# Altium schematic symbol library unirel.SchLib: 4 symbols
Pins are listed as number, name and electrical type; pins without a type are passive.

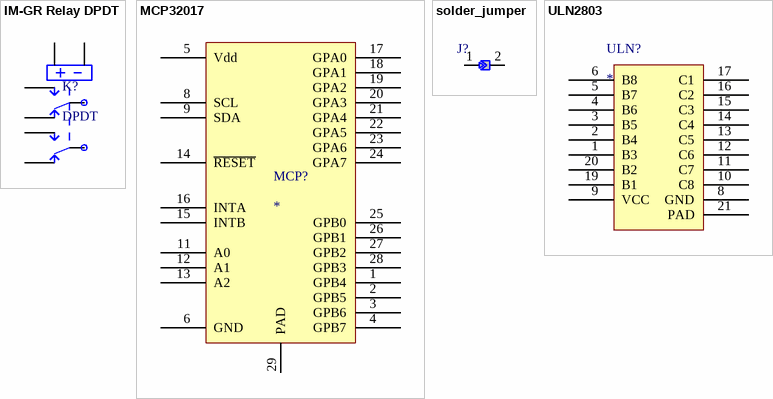
[diagram p0: symbols IM-GR Relay DPDT to ULN2803]

## IM-GR Relay DPDT
designator K?, comment DPDT
TE CONNECTIVITY  IM-GR  RELAY, DPDT, NO; Farnell ID: 1175070; URL: http://si.farnell.com/te-connectivity-axicom/im06gr/relay-gull-wing-dpco-12vdc-2a/dp/1175070
footprint AXICOM IM-G Relay (TE CONNECTIVITY AXICOM IM-G (Gull wings) Relay SMD)
pins: 1, 2, 3, 4, 5, 6, 7, 8

## MCP32017
designator MCP?
footprint MCP23017 QFN (QFN, 28-Leads, Body 6,00x6,00mm, Pitch 0,65mm, Thermal Pad 3,93x3,93mm, IPC High Density)
pins: 1 GPB4, 2 GPB5, 3 GPB6, 4 GPB7, 5 Vdd, 6 GND, 8 SCL, 9 SDA, 11 A0, 12 A1, 13 A2, 14 ~{RESET}, 15 INTB, 16 INTA, 17 GPA0, 18 GPA1, 19 GPA2, 20 GPA3, 21 GPA4, 22 GPA5, 23 GPA6, 24 GPA7, 25 GPB0, 26 GPB1, 27 GPB2, 28 GPB3, 29 PAD

## solder_jumper
designator J?  (value not drawn)
footprint solder_jumper_triangle
footprint SOLDER_JUMPER_SQUARE
pins: 1, 2

## ULN2803
designator ULN?
footprint QFN127P600-8N
pins: 1 B3, 2 B4, 3 B5, 4 B6, 5 B7, 6 B8, 8 GND, 9 VCC, 10 C8, 11 C7, 12 C6, 13 C5, 14 C4, 15 C3, 16 C2, 17 C1, 19 B1, 20 B2, 21 PAD